# Altium integrated library Altium Vault - TI.IntLib: 35 symbols
Pins are listed as number, name and electrical type; pins without a type are passive.

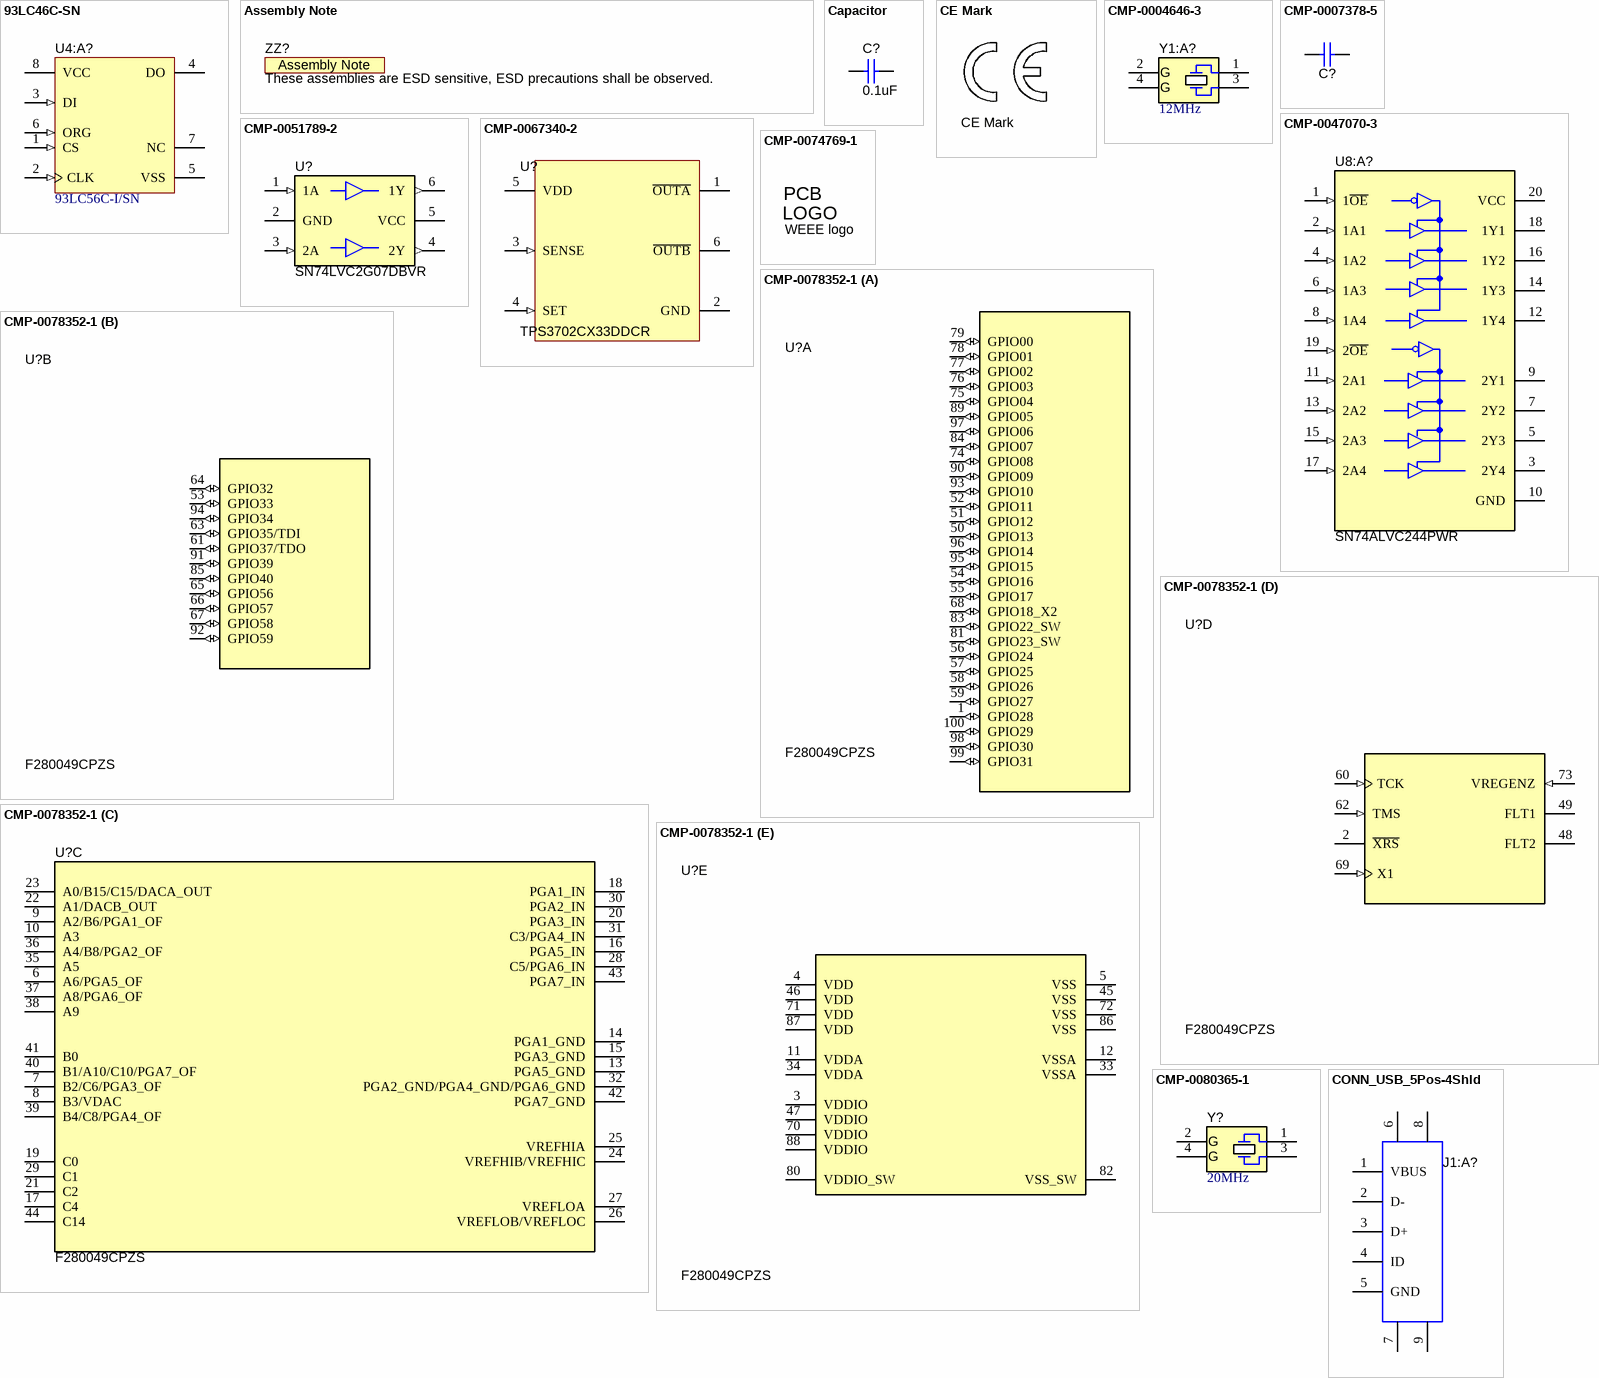
[diagram p0: symbols 93LC46C-SN to CONN_USB_5Pos-4Shld]

## 93LC46C-SN
designator U4:A?, comment 93LC56C-I/SN
2K Microwire Compatible Serial EEPROM, SOIC-8; Manufacturer: Microchip; SizeAreaWB_mm2: 55.131; SizeArea_mm2: 29.351; SizeX_mm: 5.99; SizeY_mm: 4.9; SizeZ_mm: 1.75; PartNumber: 93LC56C-I/SN; MountType: SMT; ComponentLink1Description: Datasheet URL; ComponentLink1URL: http://ww1.microchip.com/downloads/en/DeviceDoc/21794G.pdf; RoHS: Y; PackageReference: SOIC-8; Publisher: Texas Instruments; LatestRevisionDate: 09/03/2017; Supplier 1: Digi-Key; Supplier Part Number 1: 93LC56C-I/SN-ND; Supplier 2: Newark; Supplier Part Number 2: 30H4775; Supplier 3: Mouser; Supplier Part Number 3: 579-93LC56C-I/SNG
footprint SOIC-8 (duplicate of SO-8.  SOIC, 8-Leads, Body 5.0x4.0mm (max), Pitch 1.27mm, IPC Medium Density)
footprint SOIC-8L (Duplicate of SO-8.  SOIC, 8-Leads, Body 5.0x4.0mm (max), Pitch 1.27mm, IPC Most Density)
footprint SOIC-8M (Duplicate of SO-8M.  SOIC, 8-Leads, Body 5.0x4.0mm (max), Pitch 1.27mm, IPC Least Density)
pins: 1 CS (in), 2 CLK (in), 3 DI (in), 4 DO (hiz), 5 VSS (power), 6 ORG (in), 7 NC, 8 VCC (power)

## Assembly Note
designator ZZ?, comment These assemblies are ESD sensitive, ESD precautions shall be observed.  (no BOM)
CompType: AssemblyNote; ClassName: AssemblyNote; Publisher: Texas Instruments; LatestRevisionDate: 2017-08-10; Key: AssemblyNote
footprint AssemblyNote (Assembly Note)

## Capacitor
designator C?, comment ValueDisplayed: 0.1uF  (hidden comment: GRM155R71A104KA01D)
CAP, CERM, 0.1 uF, 10 V, +/- 10%, X7R, 0402; Manufacturer: MuRata; Polarized: N; CompType: Capacitor; Value: 0.1uF; U/M: EA; Cap_F: 100nF; Value1: Unknown; VDC_V: 10V; TaMin_C: -55°C; TaMax_C: 125°C; Cap_Case: 0402; AEC Category: Q200; SizeArea_mm2: 0.5; SizeAreaWB_mm2: 3; SizeX_mm: 1; SizeZ_mm: 0.6; PartNumber: GRM155R71A104KA01D; PackageReference: 0402; RoHS: Y; Tolerance_%: 10%; Value2: 10V; MountType: SMT; Technology: Ceramic; TempCo: X7R; Published: 2008-06-19; Publisher: Texas Instruments; LatestRevisionDate: 2017-03-09; ComponentLink1Description: Datasheet link; ComponentLink1URL: http://search.murata.co.jp/Ceramy/PnsearchViewAction.do?HnOFG=ON&HnNFG=ON&SEL_CNT=50&sLang=en&sKey=GRM155R71A104KA01D&x=9&y=9&search=startwith; Supplier 1: Digi-Key; Supplier Part Number 1: GRM155R71A104KA01D-ND; Supplier 2: Newark; Supplier Part Number 2: 14T3278; Supplier 3: Mouser; Supplier Part Number 3: 81-GRM155R71A104KA1D; AEC Qualified: ?; SizeY_mm: 0.5
footprint 0402 (0402 from SM-752 data)
footprint 0402S (Based on C0402S footprint from PADS legacy)
footprint 0402L (0402 from SM-752 data)
footprint 0402M (0402 from SM-752 data)
pins: 1, 2

## CE Mark
designator LOGO?  (no BOM)
SymbolCreator: a0412235; Published: 2009-03-03; Publisher: Texas Instruments; LatestRevisionDate: 2017-07-06; Lib Reference: CE Mark; PartNumber: CE Mark; Library Reference: CE Mark
footprint CE_Mark_5mm (Minimum text height for CE Mark)
footprint CE_Mark_10mm (Double the minimum text height for CE Mark)

## CMP-0004646-3
designator Y1:A?, comment 12MHz
Crystal, 12 MHz, 20pF, SMD; PartNumber: ECS-120-20-30B-TR; Manufacturer: ECS Inc.; TaMin_C: -20°C; TaMax_C: 70°C; Frequency Stability: +/-50ppm; CompType: Crystal; PackageReference: 5x3.2mm; MountType: SMT; RoHS: Y; ComponentLink1Description: Datasheet Link; ComponentLink1URL: http://www.ecsxtal.com/store/pdf/ecx_53b.pdf; Supplier 1: Digi-Key; Supplier Part Number 1: XC1118CT-ND; Supplier 2: Mouser; Supplier Part Number 2: 520-ECS-120-20-30B; Frequency_Fixed: 12MHz
footprint ECS_ECX-53B (SMD, 4-Leads, Body 5x3.2mm)
pins: 1, 2 GND (power), 3, 4 GND (power)
text: G

## CMP-0007378-5
designator C?, comment GRM188R71C104KA01D  (value not drawn)
CAP, CERM, 0.1 uF, 16 V, +/- 10%, X7R, 0603; Manufacturer: MuRata; Polarized: N; CompType: Capacitor; Value: 0.1uF; U/M: EA; Cap_F: 100nF; Value1: Unknown; VDC_V: 16V; TaMin_C: -55°C; TaMax_C: 125°C; Cap_Case: 0603; SizeArea_mm2: 1.28; SizeAreaWB_mm2: 4.68; SizeX_mm: 1.6; SizeY_mm: 0.8; SizeZ_mm: 1; AEC Category: Q200; PartNumber: GRM188R71C104KA01D; ValueDisplayed: 0.1uF; PackageReference: 0603; RoHS: Y; Tolerance_%: 10%; Value2: 16V; MountType: SMT; Technology: Ceramic; TempCo: X7R; Published: 2008-06-19; Publisher: Texas Instruments; LatestRevisionDate: 2017-03-09; ComponentLink1Description: Datasheet link; ComponentLink1URL: http://search.murata.co.jp/Ceramy/PnsearchViewAction.do?HnOFG=ON&HnNFG=ON&SEL_CNT=50&sLang=en&sKey=GRM188R71C104KA01D&x=9&y=9&search=startwith; Supplier 1: Digi-Key; Supplier Part Number 1: 490-1532-1-ND; Supplier 2: Mouser; Supplier Part Number 2: 81-GRM39X104K16; Supplier 3: Farnell; Supplier Part Number 3: 1828890; AEC Qualified: ?
footprint 0603 (0603 from SM-752 data)
footprint 0603_HV (Ernesto recommended land pattern.  26 mil between pads.)
footprint 0603L (0603 from SM-752 data)
footprint 0603S
footprint 0603M (0603 from SM-752 data)
pins: 1, 2

## CMP-0047070-3
designator U8:A?, comment SN74ALVC244PWR
Octal Buffer/Driver With 3-State OUtputs, PW0020A (TSSOP-20); Manufacturer: Texas Instruments; Bits(#): 8; F @ Nom Voltage(Max)(Mhz): 100; ICC @ Nom Voltage(Max)(mA): 0.024; Input Type: LVTTL; Rating: Catalog; tpd @ Nom Voltage(Max)(ns): 4.4,3.1,2.8; VCC(Max)(V): 3.6; VCC(Min)(V): 1.65; Voltage(Nom)(V): 1.8,2.5,2.7,3.3; AEC Category: Q200; AEC Qualified: N; CompType: IC; SizeArea_mm2: 43.56; SizeAreaWB_mm2: 73.96; SizeX_mm: 6.6; SizeZ_mm: 1.2; PackageReference: PW0020A; Code_JEDEC: MO-153; DatasheetVersion: SCES188G; Generic Part Number: SN74ALVC244; Operating Temperature Range(C): -40 to 85; Output Type: LVTTL; PackageVersion: http://www.ti.com/lit/ml/mpds362/mpds362.pdf; Alternate Manufacturer: Texas Instruments; Alternate PartNumber: SN74ALVC244PW; ComponentLink1Description: Datasheet Link; ComponentLink1URL: http://www.ti.com/lit/ds/symlink/sn74alvc244.pdf; ComponentLink2Description: Product Folder; ComponentLink2URL: http://www.ti.com/product/sn74alvc244; ComponentLink3Description: Online Datasheet; ComponentLink3URL: http://www.ti.com/product/sn74alvc244/datasheet; MountType: SMT; PackageDescription: TSSOP-20; PartNumber: SN74ALVC244PWR; RoHS: Y; SizeY_mm: 6.6
footprint PW0020A_N (TSOP, 20-Leads, Body 6.5x4.4mm, Pitch 0.65mm, IPC Medium Density)
footprint PW0020A_M (TSOP, 20-Leads, Body 6.5x4.4mm, Pitch 0.65mm, IPC Low Density)
footprint PW0020A_L (TSOP, 20-Leads, Body 6.5x4.4mm, Pitch 0.65mm, IPC High Density)
pins: 1 1~{OE} (in), 2 1A1 (in), 3 2Y4 (hiz), 4 1A2 (in), 5 2Y3 (hiz), 6 1A3 (in), 7 2Y2 (hiz), 8 1A4 (in), 9 2Y1 (hiz), 10 GND (power), 11 2A1 (in), 12 1Y4 (hiz), 13 2A2 (in), 14 1Y3 (hiz), 15 2A3 (in), 16 1Y2 (hiz), 17 2A4 (in), 18 1Y1 (hiz), 19 2~{OE} (in), 20 VCC (power)

## CMP-0051789-2
designator U?, comment SN74LVC2G07DBVR
Dual Buffer/Driver with Open-Drain Output, DBV0006A, LARGE T&R; Manufacturer: Texas Instruments; 3-State Output: No; Bits(#): 2; F @ Nom Voltage(Max)(Mhz): 150; ICC @ Nom Voltage(Max)(mA): 0.01; Input Type: CMOS/TTL; Logic: True; Output Drive (IOL/IOH)(Max)(mA): 32/-32; Output Type: CMOS; Rating: Catalog; Sub-Family: Inverting Buffer/Driver; Technology Family: LVC; tpd @ Nom Voltage(Max)(ns): 8.6,4.4,3.7,2.9; VCC(Max)(V): 5.5; VCC(Min)(V): 1.65; Voltage(Nom)(V): 1.8,2.5,3.3,5; AEC Category: Q200; AEC Qualified: N; CompType: IC; Green_Lifecycle: Active; Green_REACh: Passed; SizeArea_mm2: 8.12; SizeAreaWB_mm2: 14.82; SizeX_mm: 2.8; SizeY_mm: 2.9; SizeZ_mm: 1.45; PackageReference: DBV0006A; DatasheetVersion: SCES308K; Generic Part Number: SN74LVC2G07; Operating Temperature Range(C): -40 to 125; Schmitt Trigger: No; ComponentLink1Description: Datasheet Link; ComponentLink1URL: http://www.ti.com/lit/ds/symlink/sn74lvc2g07.pdf; ComponentLink2Description: Product Folder; ComponentLink2URL: http://www.ti.com/product/sn74lvc2g07; ComponentLink3Description: Online Datasheet; ComponentLink3URL: http://www.ti.com/product/sn74lvc2g07/datasheet; Green_EU RoHS-2: Passed; Green_EU RoHS: Passed; MountType: SMT; PackageDescription: SOT-23-6; PartNumber: SN74LVC2G07DBVR; RoHS: Y
footprint DBV0006A_N (SOT23, 6-Leads, Body 2.9x1.6mm, Pitch 0.95mm, Lead Span 2.8mm, IPC Medium Density)
footprint DBV0006A_M (SOT23, 6-Leads, Body 2.9x1.6mm, Pitch 0.95mm, Lead Span 2.8mm, IPC Low Density)
footprint DBV0006A_L (SOT23, 6-Leads, Body 2.9x1.6mm, Pitch 0.95mm, Lead Span 2.8mm, IPC High Density)
pins: 1 1A (in), 2 GND (power), 3 2A (in), 4 2Y (out), 5 VCC (power), 6 1Y (out)
1 alternate drawing of the same symbol

## CMP-0067340-2
designator U?, comment TPS3702CX33DDCR
High-Accuracy, Fixed-Threshold OV/UV Monitor, DDC0006A (SOT-23-T-6); Alternate PartNumber: TPS3702CX33DDCT; Manufacturer: Texas Instruments; SizeZ_mm: 0.87; SizeX_mm: 1.65; SizeY_mm: 2.95; SizeArea_mm2: 4.8675; CompType: IC; U/M: EA; SizeAreaWB_mm2: 10.4675; ComponentLink1URL: http://www.ti.com/lit/ds/symlink/tps3702.pdf; Publisher: Texas Instruments; PackageDescription: SOT-23-T-6; PackageReference: DDC0006A; LatestRevisionDate: 2017-06-09; RoHS: Y; MountType: SMT; PartNumber: TPS3702CX33DDCR; Alternate Manufacturer: Texas Instruments; ComponentLink1Description: Datasheet Link
footprint DDC0006A_N
footprint DDC0006A_L
footprint DDC0006A_M
pins: 1 ~{OUTA} (oc), 2 GND (power), 3 SENSE (in), 4 SET (in), 5 VDD (power), 6 ~{OUTB} (oc)
1 alternate drawing of the same symbol

## CMP-0074769-1
designator Logo?, comment WEEE logo  (no BOM)
Library Reference: WEEE logo; Lib Reference: WEEE logo; PartNumber: WEEE logo
footprint WEEE_Minimum (WEEElie bin)
text: PCB; LOGO

## CMP-0078352-1
designator U?, comment F280049CPZS
Piccolo Microcontroller, PZ0100A (LQFP-100); Manufacturer: Texas Instruments; SizeArea_mm2: 256; SizeAreaWB_mm2: 324; SizeX_mm: 16; SizeZ_mm: 1.6; CompType: IC; AEC Category: Q200; AEC Qualified: N; PartNumber: F280049CPZS; PackageReference: PZ0100A; PackageDescription: LQFP-100; MountType: SMT; SizeY_mm: 16; ComponentLink1Description: Datasheet Link; ComponentLink1URL: http://www.ti.com/lit/ds/symlink/tms320f280049c.pdf; Alternate Manufacturer: Texas Instruments; ComponentLink2URL: http://www.ti.com/product/tms320f280049c; ComponentLink2Description: Product Folder
footprint PZ0100A_N (TSQFP, 100-Leads, Body 16.2x16.2mm (max), Pitch 0.50mm, IPC Medium Density)
footprint PZ0100A_M (TSQFP, 100-Leads, Body 16.2x16.2mm (max), Pitch 0.50mm, IPC Low Density)
footprint PZ0100A_L (TSQFP, 100-Leads, Body 16.2x16.2mm (max), Pitch 0.50mm, IPC High Density)
part A pins: 1 GPIO28 (io), 50 GPIO13 (io), 51 GPIO12 (io), 52 GPIO11 (io), 54 GPIO16 (io), 55 GPIO17 (io), 56 GPIO24 (io), 57 GPIO25 (io), 58 GPIO26 (io), 59 GPIO27 (io), 68 GPIO18_X2 (io), 74 GPIO08 (io), 75 GPIO04 (io), 76 GPIO03 (io), 77 GPIO02 (io), 78 GPIO01 (io), 79 GPIO00 (io), 81 GPIO23_SW (io), 83 GPIO22_SW (io), 84 GPIO07 (io), 89 GPIO05 (io), 90 GPIO09 (io), 93 GPIO10 (io), 95 GPIO15 (io), 96 GPIO14 (io), 97 GPIO06 (io), 98 GPIO30 (io), 99 GPIO31 (io), 100 GPIO29 (io)
part B pins: 53 GPIO33 (io), 61 GPIO37/TDO (io), 63 GPIO35/TDI (io), 64 GPIO32 (io), 65 GPIO56 (io), 66 GPIO57 (io), 67 GPIO58 (io), 85 GPIO40 (io), 91 GPIO39 (io), 92 GPIO59 (io), 94 GPIO34 (io)
part C pins: 6 A6/PGA5_OF, 7 B2/C6/PGA3_OF, 8 B3/VDAC, 9 A2/B6/PGA1_OF, 10 A3, 13 PGA5_GND, 14 PGA1_GND, 15 PGA3_GND, 16 PGA5_IN, 17 C4, 18 PGA1_IN, 19 C0, 20 PGA3_IN, 21 C2, 22 A1/DACB_OUT, 23 A0/B15/C15/DACA_OUT, 24 VREFHIB/VREFHIC, 25 VREFHIA, 26 VREFLOB/VREFLOC, 27 VREFLOA, 28 C5/PGA6_IN, 29 C1, 30 PGA2_IN, 31 C3/PGA4_IN, 32 PGA2_GND/PGA4_GND/PGA6_GND, 35 A5, 36 A4/B8/PGA2_OF, 37 A8/PGA6_OF, 38 A9, 39 B4/C8/PGA4_OF, 40 B1/A10/C10/PGA7_OF, 41 B0, 42 PGA7_GND, 43 PGA7_IN, 44 C14
part D pins: 2 ~{XRS} (oc), 48 FLT2, 49 FLT1, 60 TCK (in), 62 TMS (in), 69 X1 (in), 73 VREGENZ (in)
part E pins: 3 VDDIO (power), 4 VDD (power), 5 VSS (power), 11 VDDA (power), 12 VSSA (power), 33 VSSA (power), 34 VDDA (power), 45 VSS (power), 46 VDD (power), 47 VDDIO (power), 70 VDDIO (power), 71 VDD (power), 72 VSS (power), 80 VDDIO_SW (power), 82 VSS_SW (power), 86 VSS (power), 87 VDD (power), 88 VDDIO (power)

## CMP-0080365-1
designator Y?, comment 20MHz
Crystal, 20 MHz, 25 ppm, 18, SMD; PartNumber: ECS-200-18-30B-AGN-TR; Manufacturer: ECS Inc.; Frequency Stability: 30 ppm; AEC Qualified: N; Frequency Tolerance: 25 ppm; AEC Category: Q200; TaMax_C: 85°C; TaMin_C: -40°C; Load Capacitance: 18; ComponentLink1Description: Datasheet Link; RoHS: Y; Supplier 1: Digi-Key; PackageReference: 5x3.2mm; Frequency_Fixed: 20MHz; Supplier Part Number 2: 520-200-18-30B-AGNT; Supplier 2: Mouser; AEC Grade: N/A; ComponentLink1URL: http://www.ecsxtal.com/store/pdf/ecx_53b.pdf; CompType: Crystal; Supplier Part Number 1: XC2693CT-ND; MountType: SMT
footprint ECS_ECX-53B (SMD, 4-Leads, Body 5x3.2mm)
pins: 1, 2 GND (power), 3, 4 GND (power)
text: G

## CONN_USB_5Pos-4Shld
designator J1:A?, comment 65100516121  (value not drawn)
Connector, Receptacle, USB Mini B 2.0, SMT; Manufacturer: Wurth Elektronik; Pitch_mm: 0.8; Gender: Female; Row_Count: 1; ContactFinish: Gold; Current_A: 1A; Voltage_V: 30V; Cert_UL: Y; CNHeader: FALSE; CT: TRUE; Green_Lifecycle: Active; Green_REACh: Passed; PartNumber: 65100516121; PackageReference: Connector, Receptacle, USB Mini B 2.0, 5 Position, SMT; CompType: USB; RoHS: Y; MountType: SMT; ComponentLink1Description: Datasheet URL; ComponentLink1URL: http://katalog.we-online.de/em/datasheet/65100516121.pdf; Publisher: Texas Instruments; LatestRevisionDate: 26/05/2017; Supplier 1: Digi-Key; Supplier Part Number 1: 732-2109-1-ND; Supplier 2: Newark; Supplier Part Number 2: 19P1304; Supplier 3: Mouser; Supplier Part Number 3: 710-65100516121; Orientation: R/A; PinCount: 5; Color: Black; Cert_CULUS: Y; Green_EU RoHS-2: Incomplete; Green_EU RoHS: Passed
footprint Wurth_65100516121 (Connector, Receptacle, USB Mini B 2.0, 5 Position, SMT)
pins: 1 VBUS, 2 D-, 3 D+, 4 ID, 5 GND, 6, 7, 8, 9
1 alternate drawing of the same symbol

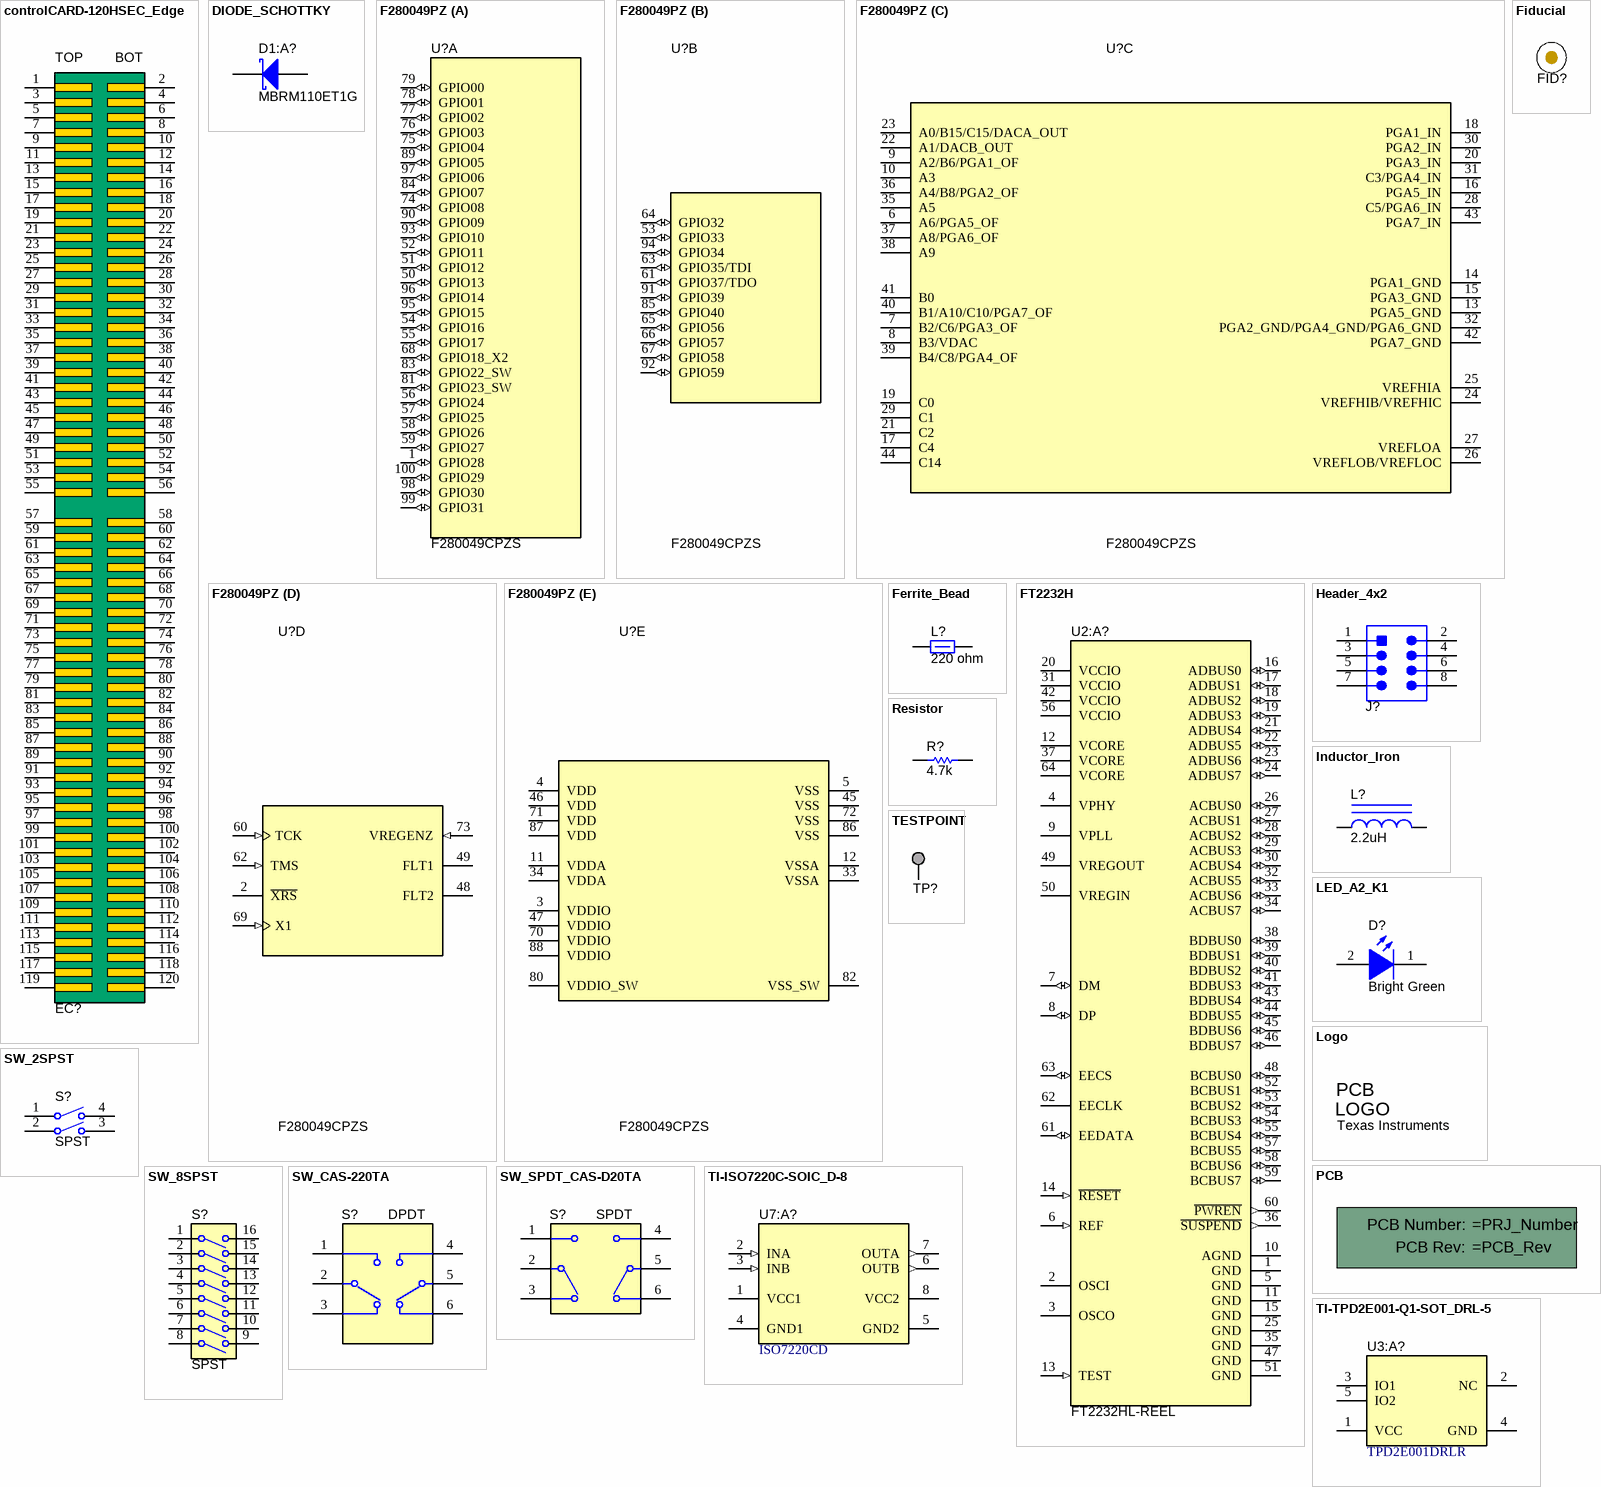
[diagram p1: symbols controlCARD-120HSEC_Edge to TI-TPD2E001-Q1-SOT_DRL-5]

## controlCARD-120HSEC_Edge
designator EC?  (value not drawn)  (no BOM)
C2000 controlCARD-120HSEC Edge Connector for Samtec HSEC8-160-01-L-DV-A-BL; Manufacturer: Any; Note: The pin numbering does not match Samtec datasheet; CompType: Edge Connector; PartNumber: controlCARD-120HSEC_Edge; PackageReference: C2000 pin numbering for edge connetor; MountType: N/A
footprint controlCARD-120HSEC_Edge (Edge Connector, 0.8mm, 60x2, pad numbers do not match Samtec datasheet)
pins: 1, 2, 3, 4, 5, 6, 7, 8, 9, 10, 11, 12, 13, 14, 15, 16, 17, 18, 19, 20, 21, 22, 23, 24, 25, 26, 27, 28, 29, 30, 31, 32, 33, 34, 35, 36, 37, 38, 39, 40, 41, 42, 43, 44, 45, 46, 47, 48, 49, 50, 51, 52, 53, 54, 55, 56, 57, 58, 59, 60, 61, 62, 63, 64, 65, 66, 67, 68, 69, 70, 71, 72, 73, 74, 75, 76, 77, 78, 79, 80, 81, 82, 83, 84, 85, 86, 87, 88, 89, 90, 91, 92, 93, 94, 95, 96, 97, 98, 99, 100, 101, 102, 103, 104, 105, 106, 107, 108, 109, 110, 111, 112, 113, 114, 115, 116, 117, 118, 119, 120
text: TOP; BOT

## DIODE_SCHOTTKY
designator D1:A?, comment MBRM110ET1G
Diode, Schottky, 10 V, 1 A, AEC-Q101, POWERMITE; Manufacturer: ON Semiconductor; U/M: EA; Vf_V: 5.3dV; Value: 10V; Value1: 1A; Value2: 0.53V; TJmax_C: 150°C; AEC Category: Q101; AEC Qualified: Y; SizeAreaWB_mm2: 14.945; SizeArea_mm2: 7.995; SizeX_mm: 3.9; SizeY_mm: 2.05; SizeZ_mm: 1.15; Green_Lifecycle: Not Set; Green_REACh: Incomplete; CompType: Diode; PartNumber: MBRM110ET1G; PackageReference: POWERMITE; Io_A: 1A; Vr_V: 10V; MountType: SMT; Type: Schottky; RoHS: Y; Published: 2008-06-26; Publisher: Texas Instruments; LatestRevisionDate: 2017-05-08; ComponentLink1Description: Datasheet link; ComponentLink1URL: http://www.onsemi.com/pub_link/Collateral/MBRM110E-D.PDF; Supplier 1: Digi-Key; Supplier Part Number 1: MBRM110ET1GOSCT-ND; Supplier 2: Newark; Supplier Part Number 2: 45J0787; Supplier 3: Mouser; Supplier Part Number 3: 863-MBRM110ET1G; Green_EU RoHS-2: Incomplete; Green_EU RoHS: Incomplete
footprint POWERMITE (On Semi recommended land pattern, 457-04.pdf Rev 04E dated 2008-11-26)
pins: 1 K, 2 A

## F280049PZ
designator U?, comment F280049CPZS
Piccolo Microcontroller, PZ0100A (LQFP-100); Manufacturer: Texas Instruments; SizeArea_mm2: 256; SizeAreaWB_mm2: 324; SizeX_mm: 16; SizeZ_mm: 1.6; CompType: IC; AEC Category: Q200; AEC Qualified: N; PartNumber: F280049CPZS; PackageReference: PZ0100A; PackageDescription: LQFP-100; MountType: SMT; SizeY_mm: 16; ComponentLink1Description: Datasheet Link; ComponentLink1URL: http://www.ti.com/lit/ds/symlink/tms320f280049c.pdf; Alternate Manufacturer: Texas Instruments; ComponentLink2URL: http://www.ti.com/product/tms320f280049c; ComponentLink2Description: Product Folder
footprint PZ0100A_N (TSQFP, 100-Leads, Body 16.2x16.2mm (max), Pitch 0.50mm, IPC Medium Density)
footprint PZ0100A_M (TSQFP, 100-Leads, Body 16.2x16.2mm (max), Pitch 0.50mm, IPC Low Density)
footprint PZ0100A_L (TSQFP, 100-Leads, Body 16.2x16.2mm (max), Pitch 0.50mm, IPC High Density)
part A pins: 1 GPIO28 (io), 50 GPIO13 (io), 51 GPIO12 (io), 52 GPIO11 (io), 54 GPIO16 (io), 55 GPIO17 (io), 56 GPIO24 (io), 57 GPIO25 (io), 58 GPIO26 (io), 59 GPIO27 (io), 68 GPIO18_X2 (io), 74 GPIO08 (io), 75 GPIO04 (io), 76 GPIO03 (io), 77 GPIO02 (io), 78 GPIO01 (io), 79 GPIO00 (io), 81 GPIO23_SW (io), 83 GPIO22_SW (io), 84 GPIO07 (io), 89 GPIO05 (io), 90 GPIO09 (io), 93 GPIO10 (io), 95 GPIO15 (io), 96 GPIO14 (io), 97 GPIO06 (io), 98 GPIO30 (io), 99 GPIO31 (io), 100 GPIO29 (io)
part B pins: 53 GPIO33 (io), 61 GPIO37/TDO (io), 63 GPIO35/TDI (io), 64 GPIO32 (io), 65 GPIO56 (io), 66 GPIO57 (io), 67 GPIO58 (io), 85 GPIO40 (io), 91 GPIO39 (io), 92 GPIO59 (io), 94 GPIO34 (io)
part C pins: 6 A6/PGA5_OF, 7 B2/C6/PGA3_OF, 8 B3/VDAC, 9 A2/B6/PGA1_OF, 10 A3, 13 PGA5_GND, 14 PGA1_GND, 15 PGA3_GND, 16 PGA5_IN, 17 C4, 18 PGA1_IN, 19 C0, 20 PGA3_IN, 21 C2, 22 A1/DACB_OUT, 23 A0/B15/C15/DACA_OUT, 24 VREFHIB/VREFHIC, 25 VREFHIA, 26 VREFLOB/VREFLOC, 27 VREFLOA, 28 C5/PGA6_IN, 29 C1, 30 PGA2_IN, 31 C3/PGA4_IN, 32 PGA2_GND/PGA4_GND/PGA6_GND, 35 A5, 36 A4/B8/PGA2_OF, 37 A8/PGA6_OF, 38 A9, 39 B4/C8/PGA4_OF, 40 B1/A10/C10/PGA7_OF, 41 B0, 42 PGA7_GND, 43 PGA7_IN, 44 C14
part D pins: 2 ~{XRS} (oc), 48 FLT2, 49 FLT1, 60 TCK (in), 62 TMS (in), 69 X1 (in), 73 VREGENZ (in)
part E pins: 3 VDDIO (power), 4 VDD (power), 5 VSS (power), 11 VDDA (power), 12 VSSA (power), 33 VSSA (power), 34 VDDA (power), 45 VSS (power), 46 VDD (power), 47 VDDIO (power), 70 VDDIO (power), 71 VDD (power), 72 VSS (power), 80 VDDIO_SW (power), 82 VSS_SW (power), 86 VSS (power), 87 VDD (power), 88 VDDIO (power)

## Ferrite_Bead
designator L?, comment value 220 ohm  (hidden comment: BLM21PG221SN1D)
Ferrite Bead, 220 ohm @ 100 MHz, 2 A, 0805; Manufacturer: MuRata; Imax_A: 2A; DCR_ohm: 0.045; Value1: 0.045 ohm; ZTyp@100MHz_Ohm: 220; SizeArea_mm2: 2.5; SizeAreaWB_mm2: 6.75; SizeX_mm: 2; SizeY_mm: 1.25; SizeZ_mm: 1.45; CompType: Ferrite Bead; PartNumber: BLM21PG221SN1D; Value2: 2A; MountType: SMT; PackageReference: 0805; Published: 2014-04-30; Publisher: Texas Instruments; LatestRevisionDate: 2017-03-09; ComponentLink1Description: Datasheet link; ComponentLink1URL: http://search.murata.co.jp/Ceramy/image/img/PDF/ENG/L0110S0100BLM21P.pdf; RoHS: Y; Supplier 1: Digi-Key; Supplier Part Number 1: 490-1054-1-ND; Supplier 2: Newark; Supplier Part Number 2: 73M9167; Supplier 3: Mouser; Supplier Part Number 3: 81-BLM21P221SG; ValueDisplayed: 220 ohm
footprint 0805_HV (0805 with 30mil clearance between pads)
footprint 0805M (0805 from SM-752 data)
footprint 0805 (0805 from SM-752 data)
footprint 0805L (0805 from SM-752 data)
footprint 0805_HV1 (Custom footprint based on analyzing multiple manufacturer recommendations)
pins: 1, 2

## Fiducial
designator FID?  (value not drawn)
Fiducial mark.  There is nothing to buy or mount.; CompType: Fiducial; Manufacturer: N/A; MountType: N/A; PackageReference: N/A; PartNumber: N/A; ClassName: FiducialMark; Library Reference: Fiducial
footprint Fiducial10-30
footprint Fiducial15-30
footprint Fiducial10-20
footprint Fiducial20-40
footprint Fiducial6.4-20

## FT2232H
designator U2:A?, comment FT2232HL-REEL
Dual High Speed USB To Multipurpose UART/FIFO IC, LQFP-64; Manufacturer: FTDI; PartNumber: FT2232HL-REEL; MountType: SMT; ComponentLink1Description: Datasheet URL; ComponentLink1URL: http://www.ftdichip.com/Support/Documents/DataSheets/ICs/DS_FT2232H.pdf; RoHS: Y; PackageReference: LQFP_10x10mm; Publisher: Texas Instruments; LatestRevisionDate: 09/03/2017; Supplier 1: Digi-Key; Supplier Part Number 1: 768-1024-1-ND; Supplier 2: Mouser; Supplier Part Number 2: 895-FT2232HL
footprint LQFP64_N (Thin QFP, 64-Leads, Body 10x10mm, Pitch 0.5mm, IPC Medium Density)
footprint LQFP64_L (Thin QFP, 64-Leads, Body 10x10mm, Pitch 0.5mm, IPC High Density)
footprint LQFP64_M (Thin QFP, 64-Leads, Body 10x10mm, Pitch 0.5mm, IPC Low Density)
pins: 1 GND (power), 2 OSCI, 3 OSCO, 4 VPHY (power), 5 GND (power), 6 REF (in), 7 DM (io), 8 DP (io), 9 VPLL (power), 10 AGND (power), 11 GND (power), 12 VCORE (power), 13 TEST (in), 14 ~{RESET} (in), 15 GND (power), 16 ADBUS0 (io), 17 ADBUS1 (io), 18 ADBUS2 (io), 19 ADBUS3 (io), 20 VCCIO (power), 21 ADBUS4 (io), 22 ADBUS5 (io), 23 ADBUS6 (io), 24 ADBUS7 (io), 25 GND (power), 26 ACBUS0 (io), 27 ACBUS1 (io), 28 ACBUS2 (io), 29 ACBUS3 (io), 30 ACBUS4 (io), 31 VCCIO (power), 32 ACBUS5 (io), 33 ACBUS6 (io), 34 ACBUS7 (io), 35 GND (power), 36 ~{SUSPEND} (out), 37 VCORE (power), 38 BDBUS0 (io), 39 BDBUS1 (io), 40 BDBUS2 (io), 41 BDBUS3 (io), 42 VCCIO (power), 43 BDBUS4 (io), 44 BDBUS5 (io), 45 BDBUS6 (io), 46 BDBUS7 (io), 47 GND (power), 48 BCBUS0 (io), 49 VREGOUT (power), 50 VREGIN (power), 51 GND (power), 52 BCBUS1 (io), 53 BCBUS2 (io), 54 BCBUS3 (io), 55 BCBUS4 (io), 56 VCCIO (power), 57 BCBUS5 (io), 58 BCBUS6 (io), 59 BCBUS7 (io), 60 ~{PWREN} (out), 61 EEDATA (io), 62 EECLK (hiz), 63 EECS (io), 64 VCORE (power)

## Header_4x2
designator J?, comment TMM-104-01-T-D  (value not drawn)
Header, 2mm, 4x2, Tin, TH; Manufacturer: Samtec; Pitch_mm: 2; Gender: Male; Shrouded: N; Current_A: 3.2A; Cert_CSA: Y; CNHeader: TRUE; CT: FALSE; PartNumber: TMM-104-01-T-D; PackageReference: Header, 2mm, 4x2, TH; ClassName: Header; CompType: Header; RoHS: Y; MountType: TH; ComponentLink1Description: Datasheet URL; ComponentLink1URL: http://suddendocs.samtec.com/catalog_english/tmm_th.pdf; Orientation: Vertical; PinCount: 8; Row_Count: 2; RowSpacing_mm: 2; ContactFinish: Tin; Color: Black; Cert_UL: Y; Publisher: Texas Instruments; LatestRevisionDate: 26/05/2017; Supplier 1: Digi-Key; Supplier Part Number 1: SAM1177-04-ND; Supplier 2: Newark; Supplier Part Number 2: 12P0661; Supplier 3: Farnell; Supplier Part Number 3: 1803386
footprint Samtec_TMM-104-01-x-D (Header, 2mm, 4x2, TH)
pins: 1, 2, 3, 4, 5, 6, 7, 8

## Inductor_Iron
designator L?, comment ValueDisplayed: 2.2uH  (hidden comment: LQM2HPN2R2MG0L)
Inductor, Multilayer, Ferrite, 2.2 uH, 1.3 A, 0.08 ohm, SMD; Manufacturer: MuRata; Value: 2.2uH; Ind_H: 2.2µH; Imax_A: 1.3A; Irms: 1.3A @ 40C rise; DCR_ohm: 0.08; AEC Category: Q200; SizeAreaWB_mm2: 10.5; SizeArea_mm2: 5; SizeX_mm: 2.5; SizeY_mm: 2; SizeZ_mm: 1.2; Green_Lifecycle: Active; Green_REACh: Passed; CompType: Inductor; PartNumber: LQM2HPN2R2MG0L; Value1: 0.08 ohm; Value2: 1.3A; Technology: Multilayer; MountType: SMT; Material: Ferrite; PackageReference: SMD, Body 2.5x2mm, Height 1.2mm; Published: 2008-06-26; Publisher: Texas Instruments; LatestRevisionDate: 2017-06-02; ComponentLink1Description: Datasheet link; ComponentLink1URL: http://psearch.murata.com/inductor/product/LQM2HPN2R2MG0%23.pdf; RoHS: Y; Supplier 1: Digi-Key; Supplier Part Number 1: 490-5114-1-ND; Supplier 2: Mouser; Supplier Part Number 2: 81-LQM2HPN2R2MG0L; AEC Qualified: ?; Green_EU RoHS-2: Incomplete; Green_EU RoHS: Passed
footprint 1008 (SMD, Body 2.5x2mm, Height 1.2mm)
pins: 1, 2

## LED_A2_K1
designator D?, comment value Bright Green  (hidden comment: 150080VS75000)
LED, Bright Green, SMD; Manufacturer: Wurth Elektronik; Type: AlInGaP; Vf_V: 2V; Io_A: 20mA; Vr_V: 5V; Tjmax_C: 85°C; Power_TotalModule: 72mW; Value1: 0.072W; Angle: 140; U/M: EA; PartNumber: 150080VS75000; PackageReference: LED_0805; RoHS: Y; CompType: LED; MountType: SMT; Value2: 2V; Color: Bright Green; Published: 2008-07-11; Publisher: Texas Instruments; ComponentLink1URL: http://katalog.we-online.de/led/datasheet/150080VS75000.pdf; ComponentLink1Description: Datasheet link; LatestRevisionDate: 2017-03-09; Supplier 1: Digi-Key; Supplier Part Number 1: 732-4986-1-ND; Supplier 2: Newark; Supplier Part Number 2: 95W3803; Supplier 3: Mouser; Supplier Part Number 3: 710-150080VS75000
footprint WL-SMCW_Green_0805 (SMD, 2-Leads, Body 2x1.25mm)
pins: 1 K, 2 A

## Logo
designator Logo?, comment Texas Instruments  (no BOM)
Texas Instrument Corporate Signature; SymbolCreator: a0412235; Lib Reference: TI_Logo; Library Reference: Logo; SymbolVersion: 2011-08-22; Published: 2009-03-03; Publisher: Texas Instruments; ClassName: Logo; LatestRevisionDate: 2017-07-06; PartNumber: Texas Instruments
footprint TI_Horizontal_Overlay_Medium
footprint TI_Horizontal_Overlay_Small
footprint TI_Stacked_SolderMask_Small
footprint TI_Stacked_SolderMask_Small_Vertical
footprint TI_Symbol_Overlay_Medium
footprint TI_Symbol_Overlay_Small
footprint TI_Symbol_SolderMask_Medium
footprint TI_Symbol_SolderMask_Small
footprint TI_Horizontal_SolderMask_Medium
footprint TI_Horizontal_SolderMask_Small
footprint TI_Stacked_Overlay_Medium
footprint TI_Stacked_Overlay_Medium_Vertical
footprint TI_Stacked_Overlay_Small
footprint TI_Stacked_Overlay_Small_Vertical
footprint TI_Stacked_SolderMask_Medium
footprint TI_Stacked_SolderMask_Medium_Vertical
text: PCB; LOGO

## PCB
designator !PCB?, comment Printed Circuit Board  (value not drawn)  (mechanical)
Manufacturer: Any; CompType: PCB; PartNumber: =PRJ_Number; RoHS: O; MountType: N/A; Publisher: Texas Instruments; LatestRevisionDate: 2017-03-09; Key: PCB
1 alternate drawing of the same symbol
text: PCB Number:; PCB Rev:

## Resistor
designator R?, comment ValueDisplayed: 4.7k  (hidden comment: CRCW04024K70JNED)
RES, 4.7 k, 5%, 0.063 W, AEC-Q200 Grade 0, 0402; Manufacturer: Vishay-Dale; CompType: Resistor; Value: 4.7k; Value_Code: 4k70; Power_W: 63mW; Value2: 0.063W; VDC_V: 50V; TempCo: 200 ppm/C; EIA_Code: E24; AEC Category: Q200; AEC Qualified: Y; AEC Grade: 0; SizeArea_mm2: 0.5; SizeX_mm: 1; SizeZ_mm: 0.6; PartNumber: CRCW04024K70JNED; PackageReference: 0402; RoHS: E; Res_ohm: 4.7k; Tolerance_%: 5%; Value1: 5%; MountType: SMT; Technology: Thick Film; ComponentLink1Description: Datasheet link; ComponentLink1URL: http://www.vishay.com/docs/20035/dcrcwe3.pdf; Supplier 1: Digi-Key; Supplier Part Number 1: 541-4.7KJCT-ND; Supplier 2: Newark; Supplier Part Number 2: 59M6733; Supplier 3: Mouser; Supplier Part Number 3: 71-CRCW0402J-4.7K-E3; SizeY_mm: 0.5
footprint 0402 (0402 from SM-752 data)
footprint 0402S (Based on C0402S footprint from PADS legacy)
footprint 0402L (0402 from SM-752 data)
footprint 0402M (0402 from SM-752 data)
pins: 1, 2

## SW_2SPST
designator S?, comment Circuit: SPST  (hidden comment: 218-2LPST)
Switch, SPST, 2 Pos, 25mA, 24VDC, SMD; Manufacturer: CTS Electrocomponents; VDC_V: 24V; SwitchFunction: Off-On; PositionCount: 2; CurrentRating_mA: 25A; PartNumber: 218-2LPST; MountType: SMT; ComponentLink1Description: Datasheet Link; ComponentLink1URL: http://www.ctscorp.com/components/Datasheets/218.pdf; RoHS: Y; Orientation: Top Actuated; CompType: Switch; PackageReference: 3.71x5.8mm; Publisher: Texas Instruments; LatestRevisionDate: 2017-03-09; Supplier 1: Digi-Key; Supplier Part Number 1: CT2182LPST-ND; Supplier 2: Mouser; Supplier Part Number 2: 774-2182LPST
footprint SW_218-2LP (SMD, 4-Leads, Body 3.71x5.8mm, Pitch 1.27mm)
pins: 1, 2, 3, 4

## SW_8SPST
designator S?, comment Circuit: SPST  (hidden comment: 218-8LPST)
Switch, SPST, 8 Pos, 25mA, 24VDC, SMD; Manufacturer: CTS Electrocomponents; VDC_V: 24V; SwitchFunction: Off-On; PositionCount: 8; CurrentRating_mA: 25A; PartNumber: 218-8LPST; MountType: SMT; ComponentLink1Description: Datasheet Link; ComponentLink1URL: http://www.ctscorp.com/components/Datasheets/218.pdf; RoHS: Y; Orientation: Top Actuated; CompType: Switch; PackageReference: 11.33x5.8mm; Publisher: Texas Instruments; LatestRevisionDate: 2017-03-09; Supplier 1: Digi-Key; Supplier Part Number 1: CT2188LPST-ND; Supplier 2: Mouser; Supplier Part Number 2: 774-2188LPST
footprint SW_218-8LP (SMD, 16-Leads, Body 11.33x5.8mm, Pitch 1.27mm)
pins: 1, 2, 3, 4, 5, 6, 7, 8, 9 8A, 10 7A, 11 6A, 12 5A, 13 4A, 14 3A, 15 2A, 16 1A

## SW_CAS-220TA
designator S?, comment Circuit: DPDT  (hidden comment: CAS-220TA)
SLIDE SWITCH DPDT  .1A, SMT; Manufacturer: Copal Electronics; VDC_V: 6V; SwitchFunction: On-On; PositionCount: 2; CurrentRating_mA: 100A; PartNumber: CAS-220TA; MountType: SMT; ComponentLink1Description: Datasheet URL; ComponentLink1URL: http://copal-electronics.info/en/0008e/02462.pdf; RoHS: Y; Orientation: Horizontal; CompType: Switch; PackageReference: SWITCH, 5.4x2.5x3.9mm; Publisher: Texas Instruments; LatestRevisionDate: 2017-03-09; Supplier 1: Digi-Key; Supplier Part Number 1: CAS220JCT-ND
footprint SW_CAS-220TA (COPAL ELECTRONICS)
pins: 1, 2, 3, 4, 5, 6

## SW_SPDT_CAS-D20TA
designator S?, comment Circuit: SPDT  (hidden comment: CAS-D20TA)
Switch, Dual SPDT,  2 Pos, 0.1A, 6VDC, SMD; Manufacturer: Copal Electronics; VDC_V: 6V; SwitchFunction: On-On; PositionCount: 2; CurrentRating_mA: 100A; PartNumber: CAS-D20TA; MountType: SMT; ComponentLink1Description: Datasheet Link; ComponentLink1URL: http://www.nidec-copal-electronics.com/e/catalog/switch/cas.pdf; RoHS: Y; Orientation: Top Actuated; CompType: Switch; PackageReference: 5.4x3.9mm; Publisher: Texas Instruments; LatestRevisionDate: 2017-03-09; Supplier 1: Digi-Key; Supplier Part Number 1: CASD20JCT-ND
footprint SW_CAS-D20TA (SMD, 6-Leads, Body 5.4x3.9mm, Pitch 1.75mm)
pins: 1, 2 C, 3, 4, 5 C, 6

## TESTPOINT
designator TP?  (value not drawn)  (no BOM)
TEST POINT.  No entry in BOM.; CompType: Testpoint; PackageReference: N/A; Manufacturer: N/A; PartNumber: N/A; Library Reference: TESTPOINT
footprint TESTPOINT
footprint TP_VIA_018RND008
footprint TP_VIA_060RND040
footprint TP_25MIL-SMT
footprint TP_50MIL-25MILHOLE
footprint TP_60MIL-SMT
footprint TP_VIA_024RND014
footprint TP_50MIL-SMT
footprint TP_60MIL-SMT-155
pins: 1

## TI-ISO7220C-SOIC_D-8
designator U7:A?, comment ISO7220CD
25 Mbps Dual Channels, 2 / 0, Digital Isolator, 3.3 V / 5 V, -40 to +125 degC, 8-pin SOIC (D), Green (RoHS & no Sb/Br); Manufacturer: Texas Instruments; Datarate(Mbps): 25; Input Noise Filter: Yes; Insulation Rating(VRMS): 2500; Prop Delay(Max)(ns): 42; Rating: Catalog; Supply Voltage(s)(V): 3.3, 5; TTL/CMOS Input Threshold: TTL; DatasheetVersion: SLLS755L; PackageVersion: revM, Jun-2011; PackageReference: D0008B; PackageDescription: 8-Pin Plastic Small Outline Integrated Circuit, 4.9 x 3.9 mm, Pitch 1.27 mm Pitch; Eco-Plan: Green (RoHS & no Sb/Br); SubFamily: Isolator; Thermal Shutdown: No; PartNumber: ISO7220CD; ComponentLink1Description: Manufacturer URL; ComponentLink1URL: http://www.ti.com/; ComponentLink2Description: Datasheet; ComponentLink2URL: http://www.ti.com/general/docs/lit/getliterature.tsp?genericPartNumber=ISO7220C&fileType=pdf; ComponentLink3Description: URL Link1; ComponentLink3URL: SamplesURL:http://www.ti.com/product/iso7220c#samples; Channel Configuration: 2/01/2000; Mounting Technology: Surface Mount
footprint D0008B_N (SOIC, 8-Leads, Body 4.9x3.9mm, Pitch 1.27mm, IPC Medium Density)
footprint D0008B_M (SOIC, 8-Leads, Body 4.9x3.9mm, Pitch 1.27mm, IPC Low Density)
footprint D0008B_L (SOIC, 8-Leads, Body 4.9x3.9mm, Pitch 1.27mm, IPC High Density)
pins: 1 VCC1 (power), 2 INA (in), 3 INB (in), 4 GND1 (power), 5 GND2 (power), 6 OUTB (out), 7 OUTA (out), 8 VCC2 (power)

## TI-TPD2E001-Q1-SOT_DRL-5
designator U3:A?, comment TPD2E001DRLR
Low-Capacitance + / - 15 kV ESD-Protection Array for High-Speed Data Interfaces, 2 Channels, -40 to +85 degC, 5-pin SOT (DRL), Green (RoHS & no Sb/Br); Manufacturer: Texas Instruments; Breakdown Voltage(Min)(V): 11; IEC 61000-4-2 Air-Gap(+/- kV): 15; IEC 61000-4-2 Contact(+/- kV): 8; IO Capacitance(Typ)(pF): 1.5; IO Leakage Current(nA): 1; SubFamily: ESD Solution; USB High Speed: TRUE; DatasheetVersion: SLLS684F; PackageVersion: revD, Aug-2007; PackageReference: DRL0005A; PackageDescription: 5-Pin Plastic Small Outline, Flat Lead 0.5 mm Pitch; Eco-Plan: Green (RoHS & no Sb/Br); PartNumber: TPD2E001DRLR; ComponentLink1Description: Manufacturer URL; ComponentLink1URL: http://www.ti.com/; ComponentLink2Description: Datasheet; ComponentLink2URL: http://www.ti.com/general/docs/lit/getliterature.tsp?genericPartNumber=TPD2E001&fileType=pdf; ComponentLink3Description: URL Link1; ComponentLink3URL: SamplesURL:http://www.ti.com/product/tpd2e001#samples; Mounting Technology: Surface Mount
footprint DRL0005A (SOTFL, 5-Flat Leads, Body 1.2x1.6x0.6mm, Pitch 0.5mm, TI recommended)
pins: 1 VCC (power) "Power-supply input. Bypass VCC to GND with a 0.1-uF ceramic capacitor.", 2 NC "No connection. Not internally connected.", 3 IO1 "ESD-protected channel", 4 GND (power) "Ground", 5 IO2 "ESD-protected channel"

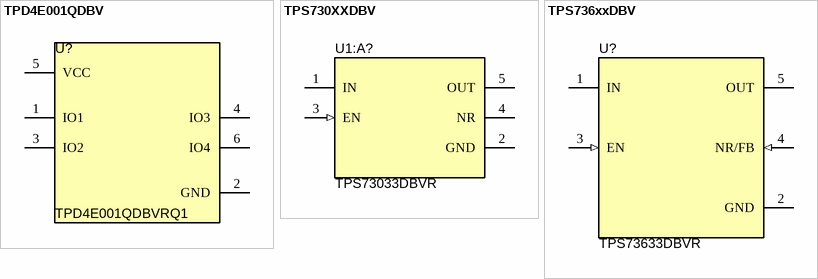
[diagram p2: symbols TPD4E001QDBV to TPS736xxDBV]

## TPD4E001QDBV
designator U?, comment TPD4E001QDBVRQ1
Automotive Low-Capacitance 4-Channel +/-15-kV ESD Protection Array for High-Speed Data Interfaces, DBV0006A (SOT-23-6); Manufacturer: Texas Instruments; CompType: IC; U/M: EA; SizeArea_mm2: 8.12; SizeAreaWB_mm2: 14.82; SizeX_mm: 2.8; SizeY_mm: 2.9; SizeZ_mm: 1.45; PartNumber: TPD4E001QDBVRQ1; PackageReference: DBV0006A; MountType: SMT; ComponentLink1Description: Datasheet Link; ComponentLink1URL: http://www.ti.com/lit/ds/symlink/tpd4e001-q1.pdf; RoHS: Y; Publisher: Texas Instruments; LatestRevisionDate: 2017-06-09; Alternate Manufacturer: Texas Instruments; PackageDescription: SOT-23-6; Footprint Path 6: C:\AltiumLibraries\Footprints\TI\.PcbLib
footprint DBV0006A_N (SOT23, 6-Leads, Body 2.9x1.6mm, Pitch 0.95mm, Lead Span 2.8mm, IPC Medium Density)
footprint DBV0006A_L (SOT23, 6-Leads, Body 2.9x1.6mm, Pitch 0.95mm, Lead Span 2.8mm, IPC High Density)
footprint DBV0006A_M (SOT23, 6-Leads, Body 2.9x1.6mm, Pitch 0.95mm, Lead Span 2.8mm, IPC Low Density)
pins: 1 IO1 "ESD-protected channel", 2 GND (power) "Ground", 3 IO2 "ESD-protected channel", 4 IO3 "ESD-protected channel", 5 VCC (power) "Power-supply input. Bypass VCC to GND with a 0.1-uF ceramic capacitor.", 6 IO4 "ESD-protected channel"
1 alternate drawing of the same symbol

## TPS730XXDBV
designator U1:A?, comment TPS73033DBVR
Low-Noise, High PSRR, RF 200-mA Low-Dropout Linear Regulators, DBV0005A (SOT-23-5); Alternate PartNumber: TPS73033DBVT; Manufacturer: Texas Instruments; CompType: IC; U/M: EA; SizeArea_mm2: 8.12; SizeAreaWB_mm2: 14.82; SizeX_mm: 2.8; SizeY_mm: 2.9; SizeZ_mm: 1.45; Green_Lifecycle: Active; Green_REACh: Passed; PartNumber: TPS73033DBVR; PackageReference: DBV0005A; MountType: SMT; ComponentLink1Description: Datasheet Link; ComponentLink1URL: http://www.ti.com/lit/ds/symlink/tps730.pdf; RoHS: Y; Publisher: Texas Instruments; LatestRevisionDate: 2017-06-09; Alternate Manufacturer: Texas Instruments; PackageDescription: SOT-23-5; Footprint Path 6: C:\AltiumLibraries\Footprints\TI\.PcbLib; Green_EU RoHS-2: Passed; Green_EU RoHS: Passed
footprint DBV0005A_N (SOT23, 5-Leads, Body 2.9x1.6mm, Pitch 0.95mm, Lead Span 2.8mm, IPC Medium Density)
footprint DBV0005A_L (SOT23, 5-Leads, Body 2.9x1.6mm, Pitch 0.95mm, Lead Span 2.8mm, IPC High Density)
footprint DBV0005A_M (SOT23, 5-Leads, Body 2.9x1.6mm, Pitch 0.95mm, Lead Span 2.8mm, IPC Low Density)
pins: 1 IN (power) "Input supply.", 2 GND (power) "Ground.", 3 EN (in) "Driving the enable pin (EN) high turns on the regulator .Driving this pin low puts the regulator into shutdown mode.EN can be connected to IN if not used.", 4 NR "Fixed voltage versions only; connecting an external capacitor to this pin bypasses noise generated by the internal bandgap. This capacitor allows output noise to be reduced to very low levels.", 5 OUT (power) "Output for the regulator. A small capacitor (total typical capacitance >= 2.0uF ceramic) is needed from this pin to ground to assure stability."

## TPS736xxDBV
designator U?, comment TPS73633DBVR
Single Output Low Noise LDO, 400 mA, Fixed 3.3 V Output, 1.7 to 5.5 V Input, with Reverse Current Protection, 5-pin SOT-23 (DBV), -40 to 85 degC, Green (RoHS & no Sb/Br); Manufacturer: Texas Instruments; Alternate PartNumber: TPS73633DBVT; Accuracy(%): 1; Fixed Output Options(V): 3.3; Iout(Max)(A): 0.4; Iq(Typ)(mA): 0.3; Rating: Catalog; SubFamily: Single Channel LDO; Vdo(Typ)(mV): 75; Vin(Max)(V): 5.5; Vin(Min)(V): 1.7; AEC Category: Q200; AEC Qualified: N; CompType: IC; Green_Lifecycle: Active; Green_REACh: Passed; SizeArea_mm2: 8.12; SizeAreaWB_mm2: 14.82; SizeX_mm: 2.8; SizeY_mm: 2.9; SizeZ_mm: 1.45; DatasheetVersion: SBVS038T; PackageVersion: 4073253-4/K; PackageReference: DBV0005A; PackageDescription: SOT-23-5; Eco-Plan: Green (RoHS & no Sb/Br); Vout Adj(Max)(V): 3.3; Vout Adj(Min)(V): 3.3; Code_JEDEC: MO-178; PartNumber: TPS73633DBVR; ComponentLink1Description: Datasheet Link; ComponentLink1URL: http://www.ti.com/lit/ds/symlink/tps736.pdf; ComponentLink2Description: Product Folder; ComponentLink2URL: http://www.ti.com/product/tps736; ComponentLink3Description: Online Datasheet; ComponentLink3URL: http://www.ti.com/product/tps736/datasheet; Alternate Manufacturer: Texas Instruments; Green_EU RoHS-2: Passed; Green_EU RoHS: Passed; MountType: SMT; RoHS: Y
footprint DBV0005A_N (SOT23, 5-Leads, Body 2.9x1.6mm, Pitch 0.95mm, Lead Span 2.8mm, IPC Medium Density)
footprint DBV0005A_M (SOT23, 5-Leads, Body 2.9x1.6mm, Pitch 0.95mm, Lead Span 2.8mm, IPC Low Density)
footprint DBV0005A_L (SOT23, 5-Leads, Body 2.9x1.6mm, Pitch 0.95mm, Lead Span 2.8mm, IPC High Density)
pins: 1 IN (power), 2 GND (power), 3 EN (in), 4 NR/FB (in), 5 OUT (power)